# Altium schematic symbol library Switches.SchLib: 2 symbols
Pins are listed as number, name and electrical type; pins without a type are passive.

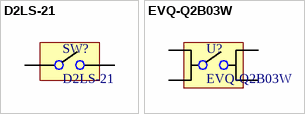
[diagram p0: symbols D2LS-21 to EVQ-Q2B03W]

## D2LS-21
designator SW?
Compact Surface-mounting Switch for long durability; Supplier 1: Digi-Key; Supplier 2: Mouser; Supplier Part Number 1: Z4378CT-ND; Supplier Part Number 2: 653-D2LS-21
footprint D2LS-21
pins: A, B

## EVQ-Q2B03W
designator U?
Tactile Switch SPST-NO Top Actuated Surface Mount; Supplier 1: Digi-Key; Supplier 2: Mouser; Supplier Part Number 2: 667-EVQ-Q2B03W; Supplier Part Number 1: P12932SCT-ND
footprint EVQ-Q2Y03W
pins: A, A, B, B